# EAGLE library part LM3414_LED_DRIVER (library Taylor)
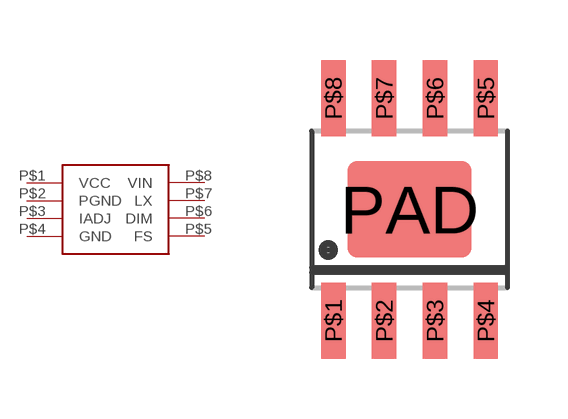
[diagram p16: symbol with the pads of EPSOP-8_SO8_WITH_THERMAL_PAD; footprint EPSOP-8_SO8_WITH_THERMAL_PAD]

Designator prefix -

## LM3414_LED_DRIVER  [EPSOP-8_SO8_WITH_THERMAL_PAD]
P$1  VCC  pwr
P$2  PGND  pwr
P$3  IADJ
P$4  GND  pwr
P$5  FS
P$6  DIM
P$7  LX
P$8  VIN
PAD  PGND1  pwr

## Footprint EPSOP-8_SO8_WITH_THERMAL_PAD (pad centres in mm)
smd 0.61 x 1.905: P$1 -1.905,-2.781; P$2 -0.635,-2.781; P$3 0.635,-2.781; P$4 1.905,-2.781; P$5 1.905,2.781; P$6 0.635,2.781; P$7 -0.635,2.781; P$8 -1.905,2.781
smd 3.099 x 2.413: PAD 0,0